# EAGLE library part 24P(90DEG)_1-794108-0 (library con-MATE-N-LOK)
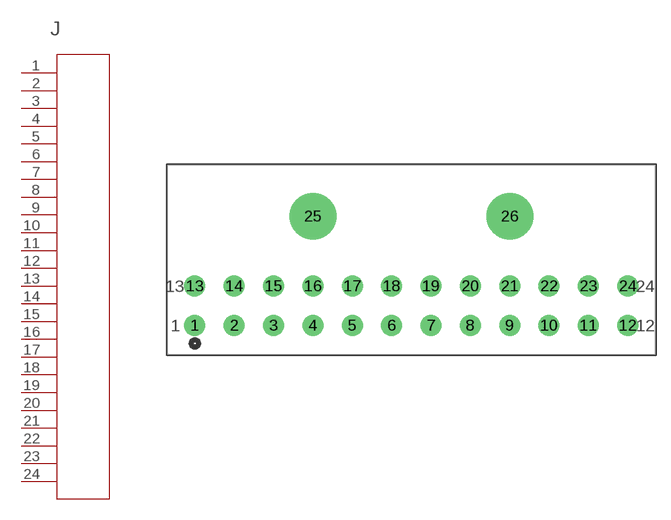
[diagram p0: symbol with the pads of CON24_2X12_P4_14MM_RAMNL; footprint CON24_2X12_P4_14MM_RAMNL]

Designator prefix J

## 24P(90DEG)_1-794108-0 (MANUFACTURER_PART_NUMBER: 17941080; VENDOR: TE Connectivity)  [CON24_2X12_P4_14MM_RAMNL]
1  1  pas
2  2  pas
3  3  pas
4  4  pas
5  5  pas
6  6  pas
7  7  pas
8  8  pas
9  9  pas
10  10  pas
11  11  pas
12  12  pas
13  13  pas
14  14  pas
15  15  pas
16  16  pas
17  17  pas
18  18  pas
19  19  pas
20  20  pas
21  21  pas
22  22  pas
23  23  pas
24  24  pas

## Footprint CON24_2X12_P4_14MM_RAMNL (pad centres in mm)
drill 1.473 pad 1.981: 1 -45.542,-4.14; 2 -41.402,-4.14; 3 -37.262,-4.14; 4 -33.122,-4.14; 5 -28.981,-4.14; 6 -24.841,-4.14; 7 -20.701,-4.14; 8 -16.561,-4.14; 9 -12.421,-4.14; 10 -8.28,-4.14; 11 -4.14,-4.14; 12 0,-4.14; 13 -45.542,0; 14 -41.402,0; 15 -37.262,0; 16 -33.122,0; 17 -28.981,0; 18 -24.841,0; 19 -20.701,0; 20 -16.561,0; 21 -12.421,0; 22 -8.28,0; 23 -4.14,0; 24 0,0
drill 3.912 pad 3.912: 25 -33.122,7.341; 26 -12.421,7.341